# Altium footprint library MF-R065.PcbLib: 1 footprints
Each footprint in its own frame and in the unit in brackets; x right, y up, seen from the top. Pads: shape width x height; smd on the part's side, far side on the other; paste and mask are expansions set on the pad; w line width, h text height; cw(c..) or ccw(c..) is an arc to the next point about the centre after c.
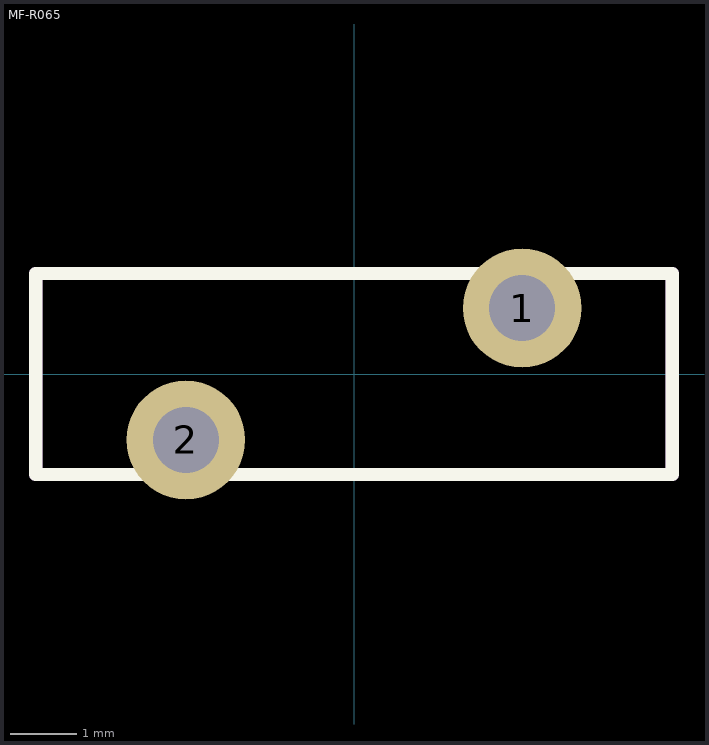
[diagram p0: the footprint, top view; thin cyan lines are the x and y axes]

## MF-R065 [mm]
pads (2):
  round 1.8 hole 1: 1(2.55,1) 2(-2.55,-1)
Top Overlay:
  lines w0.2: -4.826,-1.524 4.826,-1.524 4.826,1.524 -4.826,1.524 -4.826,-1.524
Mechanical 13:
  lines w0.2: -4.826,-1.524 -4.826,1.524 4.826,1.524 4.826,-1.524 -4.826,-1.524
  text ".Designator" at -1.143,-0.762 h1.5
3D body: height 15.85, standoff -6.97, extent -4.85,-1.525 4.85,1.525